# Altium integrated library National Semiconductor Voltage Reference.IntLib: 796 symbols (part 19 of 20)
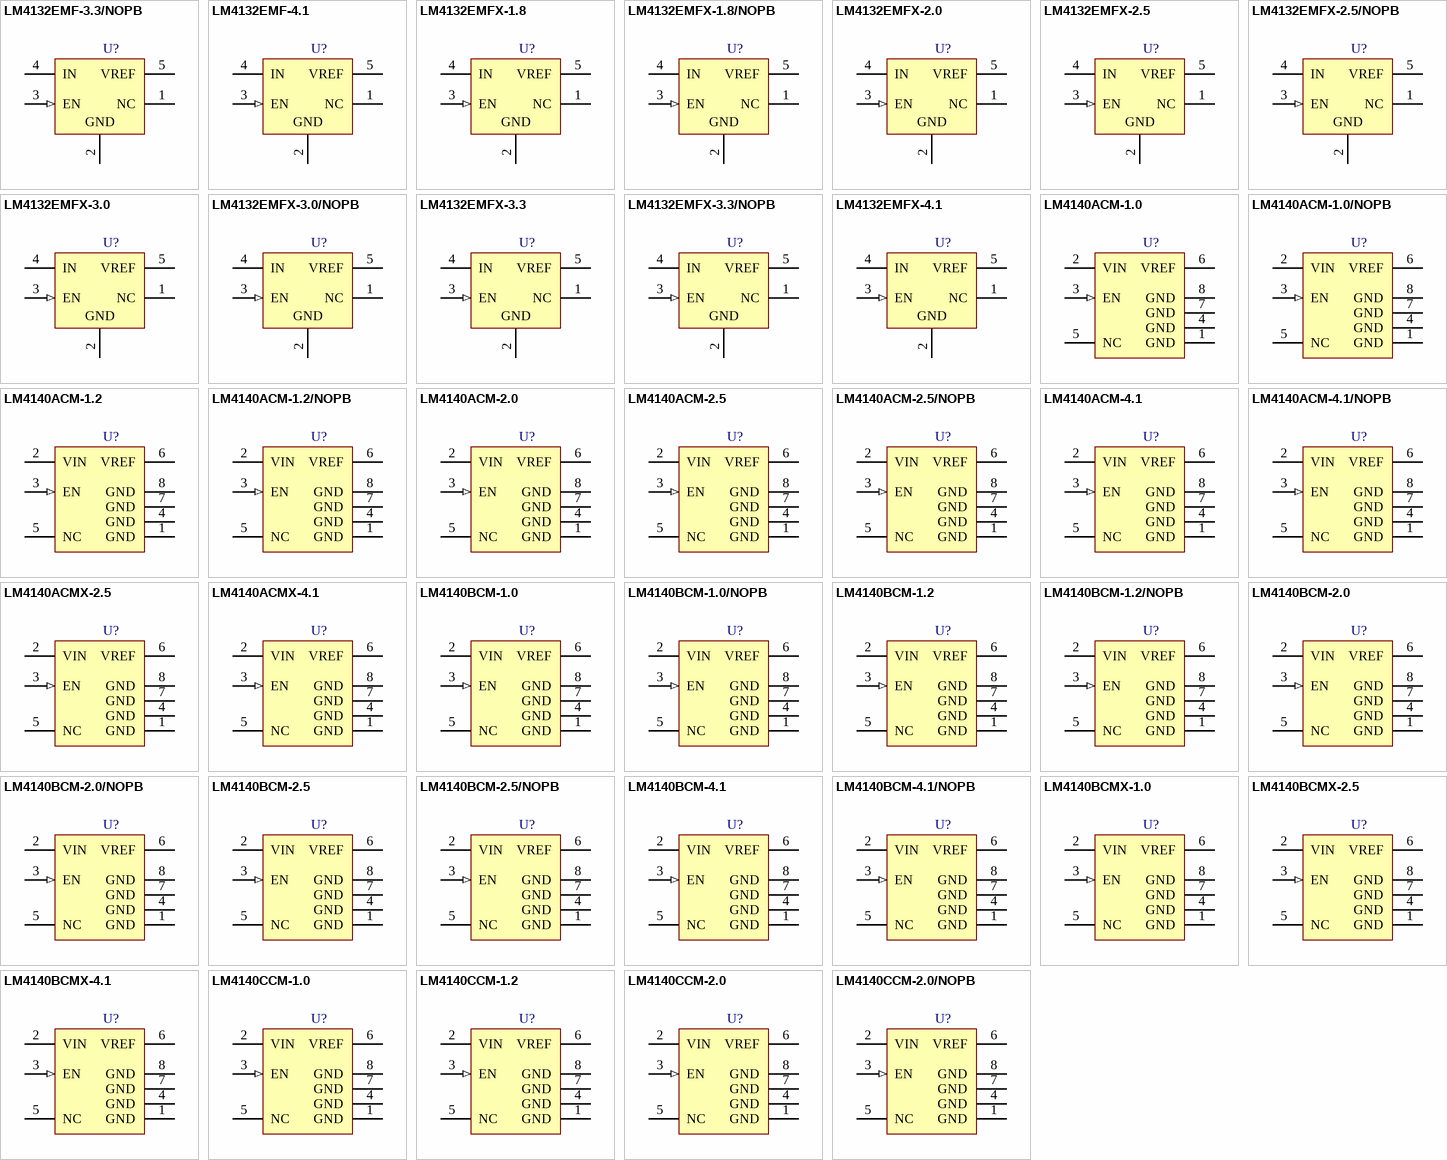
[diagram p38: symbols LM4132EMF-3.3/NOPB to LM4140CCM-2.0/NOPB]

## LM4140ACM-1.2/NOPB
designator U?
Precision Micropower Low Dropout Voltage Reference, 8-pin Narrow SOIC, Pb-Free; PartNumber: LM4140ACM-1.2/NOPB; Manufacturer: National Semiconductor; PackageTopMarking: NSZXTT*4140A*CM1.2; PowerWise: Y; CompType: Voltage Reference IC; DatasheetVersion: Feb-2005; PackageVersion: revM, May-2009; PackageReference: M08A; PackageDescription: SOIC Narrow, 4.9 x 3.9 x 1.45mm, 8 Lead, 1.27mm Pitch; RoHS: Y; PinCount: 8; Code_JEDEC: MS-012-AA; Code_IPC: SOIC127P600-8; ComponentLink1Description: Manufacturer URL; ComponentLink1URL: http://www.national.com/; ComponentLink2Description: LM4140 Datasheet; ComponentLink2URL: http://www.national.com/ds/LM/LM4140.pdf; ComponentLink3Description: LM4140 Web Page; ComponentLink3URL: http://www.national.com/pf/LM/LM4140.html; ComponentLink4Description: M08A Package Page; ComponentLink4URL: http://www.national.com/packaging/folders/m08a.html
footprint M08A_N (SOIC, 8-Leads, Body 4.9x3.9mm, Pitch 1.27mm, IPC Medium Density)
footprint M08A_L (SOIC, 8-Leads, Body 4.9x3.9mm, Pitch 1.27mm, IPC High Density)
footprint M08A_M (SOIC, 8-Leads, Body 4.9x3.9mm, Pitch 1.27mm, IPC Low Density)
pins: 1 GND (power), 2 VIN (power), 3 EN (in), 4 GND (power), 5 NC, 6 VREF (power), 7 GND (power), 8 GND (power)

## LM4140ACM-2.0
designator U?
Precision Micropower Low Dropout Voltage Reference, 8-pin Narrow SOIC; PartNumber: LM4140ACM-2.0; Manufacturer: National Semiconductor; PackageTopMarking: NSZXTT*4140A*CM2.0; PowerWise: Y; CompType: Voltage Reference IC; DatasheetVersion: Feb-2005; PackageVersion: revM, May-2009; PackageReference: M08A; PackageDescription: SOIC Narrow, 4.9 x 3.9 x 1.45mm, 8 Lead, 1.27mm Pitch; RoHS: N; PinCount: 8; Code_JEDEC: MS-012-AA; Code_IPC: SOIC127P600-8; ComponentLink1Description: Manufacturer URL; ComponentLink1URL: http://www.national.com/; ComponentLink2Description: LM4140 Datasheet; ComponentLink2URL: http://www.national.com/ds/LM/LM4140.pdf; ComponentLink3Description: LM4140 Web Page; ComponentLink3URL: http://www.national.com/pf/LM/LM4140.html; ComponentLink4Description: M08A Package Page; ComponentLink4URL: http://www.national.com/packaging/folders/m08a.html
footprint M08A_N (SOIC, 8-Leads, Body 4.9x3.9mm, Pitch 1.27mm, IPC Medium Density)
footprint M08A_L (SOIC, 8-Leads, Body 4.9x3.9mm, Pitch 1.27mm, IPC High Density)
footprint M08A_M (SOIC, 8-Leads, Body 4.9x3.9mm, Pitch 1.27mm, IPC Low Density)
pins: 1 GND (power), 2 VIN (power), 3 EN (in), 4 GND (power), 5 NC, 6 VREF (power), 7 GND (power), 8 GND (power)

## LM4140ACM-2.5
designator U?
Precision Micropower Low Dropout Voltage Reference, 8-pin Narrow SOIC; PartNumber: LM4140ACM-2.5; Manufacturer: National Semiconductor; PackageTopMarking: NSZXTT*4140A*CM2.5; PowerWise: Y; CompType: Voltage Reference IC; DatasheetVersion: Feb-2005; PackageVersion: revM, May-2009; PackageReference: M08A; PackageDescription: SOIC Narrow, 4.9 x 3.9 x 1.45mm, 8 Lead, 1.27mm Pitch; RoHS: N; PinCount: 8; Code_JEDEC: MS-012-AA; Code_IPC: SOIC127P600-8; ComponentLink1Description: Manufacturer URL; ComponentLink1URL: http://www.national.com/; ComponentLink2Description: LM4140 Datasheet; ComponentLink2URL: http://www.national.com/ds/LM/LM4140.pdf; ComponentLink3Description: LM4140 Web Page; ComponentLink3URL: http://www.national.com/pf/LM/LM4140.html; ComponentLink4Description: M08A Package Page; ComponentLink4URL: http://www.national.com/packaging/folders/m08a.html
footprint M08A_N (SOIC, 8-Leads, Body 4.9x3.9mm, Pitch 1.27mm, IPC Medium Density)
footprint M08A_L (SOIC, 8-Leads, Body 4.9x3.9mm, Pitch 1.27mm, IPC High Density)
footprint M08A_M (SOIC, 8-Leads, Body 4.9x3.9mm, Pitch 1.27mm, IPC Low Density)
pins: 1 GND (power), 2 VIN (power), 3 EN (in), 4 GND (power), 5 NC, 6 VREF (power), 7 GND (power), 8 GND (power)

## LM4140ACM-2.5/NOPB
designator U?
Precision Micropower Low Dropout Voltage Reference, 8-pin Narrow SOIC, Pb-Free; PartNumber: LM4140ACM-2.5/NOPB; Manufacturer: National Semiconductor; PackageTopMarking: NSZXTT*4140A*CM2.5; PowerWise: Y; CompType: Voltage Reference IC; DatasheetVersion: Feb-2005; PackageVersion: revM, May-2009; PackageReference: M08A; PackageDescription: SOIC Narrow, 4.9 x 3.9 x 1.45mm, 8 Lead, 1.27mm Pitch; RoHS: Y; PinCount: 8; Code_JEDEC: MS-012-AA; Code_IPC: SOIC127P600-8; ComponentLink1Description: Manufacturer URL; ComponentLink1URL: http://www.national.com/; ComponentLink2Description: LM4140 Datasheet; ComponentLink2URL: http://www.national.com/ds/LM/LM4140.pdf; ComponentLink3Description: LM4140 Web Page; ComponentLink3URL: http://www.national.com/pf/LM/LM4140.html; ComponentLink4Description: M08A Package Page; ComponentLink4URL: http://www.national.com/packaging/folders/m08a.html
footprint M08A_N (SOIC, 8-Leads, Body 4.9x3.9mm, Pitch 1.27mm, IPC Medium Density)
footprint M08A_L (SOIC, 8-Leads, Body 4.9x3.9mm, Pitch 1.27mm, IPC High Density)
footprint M08A_M (SOIC, 8-Leads, Body 4.9x3.9mm, Pitch 1.27mm, IPC Low Density)
pins: 1 GND (power), 2 VIN (power), 3 EN (in), 4 GND (power), 5 NC, 6 VREF (power), 7 GND (power), 8 GND (power)

## LM4140ACM-4.1
designator U?
Precision Micropower Low Dropout Voltage Reference, 8-pin Narrow SOIC; PartNumber: LM4140ACM-4.1; Manufacturer: National Semiconductor; PackageTopMarking: NSZXTT*4140A*CM4.1; PowerWise: Y; CompType: Voltage Reference IC; DatasheetVersion: Feb-2005; PackageVersion: revM, May-2009; PackageReference: M08A; PackageDescription: SOIC Narrow, 4.9 x 3.9 x 1.45mm, 8 Lead, 1.27mm Pitch; RoHS: N; PinCount: 8; Code_JEDEC: MS-012-AA; Code_IPC: SOIC127P600-8; ComponentLink1Description: Manufacturer URL; ComponentLink1URL: http://www.national.com/; ComponentLink2Description: LM4140 Datasheet; ComponentLink2URL: http://www.national.com/ds/LM/LM4140.pdf; ComponentLink3Description: LM4140 Web Page; ComponentLink3URL: http://www.national.com/pf/LM/LM4140.html; ComponentLink4Description: M08A Package Page; ComponentLink4URL: http://www.national.com/packaging/folders/m08a.html
footprint M08A_N (SOIC, 8-Leads, Body 4.9x3.9mm, Pitch 1.27mm, IPC Medium Density)
footprint M08A_L (SOIC, 8-Leads, Body 4.9x3.9mm, Pitch 1.27mm, IPC High Density)
footprint M08A_M (SOIC, 8-Leads, Body 4.9x3.9mm, Pitch 1.27mm, IPC Low Density)
pins: 1 GND (power), 2 VIN (power), 3 EN (in), 4 GND (power), 5 NC, 6 VREF (power), 7 GND (power), 8 GND (power)

## LM4140ACM-4.1/NOPB
designator U?
Precision Micropower Low Dropout Voltage Reference, 8-pin Narrow SOIC, Pb-Free; PartNumber: LM4140ACM-4.1/NOPB; Manufacturer: National Semiconductor; PackageTopMarking: NSZXTT*4140A*CM4.1; PowerWise: Y; CompType: Voltage Reference IC; DatasheetVersion: Feb-2005; PackageVersion: revM, May-2009; PackageReference: M08A; PackageDescription: SOIC Narrow, 4.9 x 3.9 x 1.45mm, 8 Lead, 1.27mm Pitch; RoHS: Y; PinCount: 8; Code_JEDEC: MS-012-AA; Code_IPC: SOIC127P600-8; ComponentLink1Description: Manufacturer URL; ComponentLink1URL: http://www.national.com/; ComponentLink2Description: LM4140 Datasheet; ComponentLink2URL: http://www.national.com/ds/LM/LM4140.pdf; ComponentLink3Description: LM4140 Web Page; ComponentLink3URL: http://www.national.com/pf/LM/LM4140.html; ComponentLink4Description: M08A Package Page; ComponentLink4URL: http://www.national.com/packaging/folders/m08a.html
footprint M08A_N (SOIC, 8-Leads, Body 4.9x3.9mm, Pitch 1.27mm, IPC Medium Density)
footprint M08A_L (SOIC, 8-Leads, Body 4.9x3.9mm, Pitch 1.27mm, IPC High Density)
footprint M08A_M (SOIC, 8-Leads, Body 4.9x3.9mm, Pitch 1.27mm, IPC Low Density)
pins: 1 GND (power), 2 VIN (power), 3 EN (in), 4 GND (power), 5 NC, 6 VREF (power), 7 GND (power), 8 GND (power)

## LM4140ACMX-2.5
designator U?
Precision Micropower Low Dropout Voltage Reference, 8-pin Narrow SOIC; PartNumber: LM4140ACMX-2.5; Manufacturer: National Semiconductor; PackageTopMarking: NSZXTT*4140A*CM2.5; PowerWise: Y; CompType: Voltage Reference IC; DatasheetVersion: Feb-2005; PackageVersion: revM, May-2009; PackageReference: M08A; PackageDescription: SOIC Narrow, 4.9 x 3.9 x 1.45mm, 8 Lead, 1.27mm Pitch; RoHS: N; PinCount: 8; Code_JEDEC: MS-012-AA; Code_IPC: SOIC127P600-8; ComponentLink1Description: Manufacturer URL; ComponentLink1URL: http://www.national.com/; ComponentLink2Description: LM4140 Datasheet; ComponentLink2URL: http://www.national.com/ds/LM/LM4140.pdf; ComponentLink3Description: LM4140 Web Page; ComponentLink3URL: http://www.national.com/pf/LM/LM4140.html; ComponentLink4Description: M08A Package Page; ComponentLink4URL: http://www.national.com/packaging/folders/m08a.html
footprint M08A_N (SOIC, 8-Leads, Body 4.9x3.9mm, Pitch 1.27mm, IPC Medium Density)
footprint M08A_L (SOIC, 8-Leads, Body 4.9x3.9mm, Pitch 1.27mm, IPC High Density)
footprint M08A_M (SOIC, 8-Leads, Body 4.9x3.9mm, Pitch 1.27mm, IPC Low Density)
pins: 1 GND (power), 2 VIN (power), 3 EN (in), 4 GND (power), 5 NC, 6 VREF (power), 7 GND (power), 8 GND (power)

## LM4140ACMX-4.1
designator U?
Precision Micropower Low Dropout Voltage Reference, 8-pin Narrow SOIC; PartNumber: LM4140ACMX-4.1; Manufacturer: National Semiconductor; PackageTopMarking: NSZXTT*4140A*CM4.1; PowerWise: Y; CompType: Voltage Reference IC; DatasheetVersion: Feb-2005; PackageVersion: revM, May-2009; PackageReference: M08A; PackageDescription: SOIC Narrow, 4.9 x 3.9 x 1.45mm, 8 Lead, 1.27mm Pitch; RoHS: N; PinCount: 8; Code_JEDEC: MS-012-AA; Code_IPC: SOIC127P600-8; ComponentLink1Description: Manufacturer URL; ComponentLink1URL: http://www.national.com/; ComponentLink2Description: LM4140 Datasheet; ComponentLink2URL: http://www.national.com/ds/LM/LM4140.pdf; ComponentLink3Description: LM4140 Web Page; ComponentLink3URL: http://www.national.com/pf/LM/LM4140.html; ComponentLink4Description: M08A Package Page; ComponentLink4URL: http://www.national.com/packaging/folders/m08a.html
footprint M08A_N (SOIC, 8-Leads, Body 4.9x3.9mm, Pitch 1.27mm, IPC Medium Density)
footprint M08A_L (SOIC, 8-Leads, Body 4.9x3.9mm, Pitch 1.27mm, IPC High Density)
footprint M08A_M (SOIC, 8-Leads, Body 4.9x3.9mm, Pitch 1.27mm, IPC Low Density)
pins: 1 GND (power), 2 VIN (power), 3 EN (in), 4 GND (power), 5 NC, 6 VREF (power), 7 GND (power), 8 GND (power)

## LM4140BCM-1.0
designator U?
Precision Micropower Low Dropout Voltage Reference, 8-pin Narrow SOIC; PartNumber: LM4140BCM-1.0; Manufacturer: National Semiconductor; PackageTopMarking: NSZXTT*4140B*CM1.0; PowerWise: Y; CompType: Voltage Reference IC; DatasheetVersion: Feb-2005; PackageVersion: revM, May-2009; PackageReference: M08A; PackageDescription: SOIC Narrow, 4.9 x 3.9 x 1.45mm, 8 Lead, 1.27mm Pitch; RoHS: N; PinCount: 8; Code_JEDEC: MS-012-AA; Code_IPC: SOIC127P600-8; ComponentLink1Description: Manufacturer URL; ComponentLink1URL: http://www.national.com/; ComponentLink2Description: LM4140 Datasheet; ComponentLink2URL: http://www.national.com/ds/LM/LM4140.pdf; ComponentLink3Description: LM4140 Web Page; ComponentLink3URL: http://www.national.com/pf/LM/LM4140.html; ComponentLink4Description: M08A Package Page; ComponentLink4URL: http://www.national.com/packaging/folders/m08a.html
footprint M08A_N (SOIC, 8-Leads, Body 4.9x3.9mm, Pitch 1.27mm, IPC Medium Density)
footprint M08A_L (SOIC, 8-Leads, Body 4.9x3.9mm, Pitch 1.27mm, IPC High Density)
footprint M08A_M (SOIC, 8-Leads, Body 4.9x3.9mm, Pitch 1.27mm, IPC Low Density)
pins: 1 GND (power), 2 VIN (power), 3 EN (in), 4 GND (power), 5 NC, 6 VREF (power), 7 GND (power), 8 GND (power)

## LM4140BCM-1.0/NOPB
designator U?
Precision Micropower Low Dropout Voltage Reference, 8-pin Narrow SOIC, Pb-Free; PartNumber: LM4140BCM-1.0/NOPB; Manufacturer: National Semiconductor; PackageTopMarking: NSZXTT*4140B*CM1.0; PowerWise: Y; CompType: Voltage Reference IC; DatasheetVersion: Feb-2005; PackageVersion: revM, May-2009; PackageReference: M08A; PackageDescription: SOIC Narrow, 4.9 x 3.9 x 1.45mm, 8 Lead, 1.27mm Pitch; RoHS: Y; PinCount: 8; Code_JEDEC: MS-012-AA; Code_IPC: SOIC127P600-8; ComponentLink1Description: Manufacturer URL; ComponentLink1URL: http://www.national.com/; ComponentLink2Description: LM4140 Datasheet; ComponentLink2URL: http://www.national.com/ds/LM/LM4140.pdf; ComponentLink3Description: LM4140 Web Page; ComponentLink3URL: http://www.national.com/pf/LM/LM4140.html; ComponentLink4Description: M08A Package Page; ComponentLink4URL: http://www.national.com/packaging/folders/m08a.html
footprint M08A_N (SOIC, 8-Leads, Body 4.9x3.9mm, Pitch 1.27mm, IPC Medium Density)
footprint M08A_L (SOIC, 8-Leads, Body 4.9x3.9mm, Pitch 1.27mm, IPC High Density)
footprint M08A_M (SOIC, 8-Leads, Body 4.9x3.9mm, Pitch 1.27mm, IPC Low Density)
pins: 1 GND (power), 2 VIN (power), 3 EN (in), 4 GND (power), 5 NC, 6 VREF (power), 7 GND (power), 8 GND (power)

## LM4140BCM-1.2
designator U?
Precision Micropower Low Dropout Voltage Reference, 8-pin Narrow SOIC; PartNumber: LM4140BCM-1.2; Manufacturer: National Semiconductor; PackageTopMarking: NSZXTT*4140B*CM1.2; PowerWise: Y; CompType: Voltage Reference IC; DatasheetVersion: Feb-2005; PackageVersion: revM, May-2009; PackageReference: M08A; PackageDescription: SOIC Narrow, 4.9 x 3.9 x 1.45mm, 8 Lead, 1.27mm Pitch; RoHS: N; PinCount: 8; Code_JEDEC: MS-012-AA; Code_IPC: SOIC127P600-8; ComponentLink1Description: Manufacturer URL; ComponentLink1URL: http://www.national.com/; ComponentLink2Description: LM4140 Datasheet; ComponentLink2URL: http://www.national.com/ds/LM/LM4140.pdf; ComponentLink3Description: LM4140 Web Page; ComponentLink3URL: http://www.national.com/pf/LM/LM4140.html; ComponentLink4Description: M08A Package Page; ComponentLink4URL: http://www.national.com/packaging/folders/m08a.html
footprint M08A_N (SOIC, 8-Leads, Body 4.9x3.9mm, Pitch 1.27mm, IPC Medium Density)
footprint M08A_L (SOIC, 8-Leads, Body 4.9x3.9mm, Pitch 1.27mm, IPC High Density)
footprint M08A_M (SOIC, 8-Leads, Body 4.9x3.9mm, Pitch 1.27mm, IPC Low Density)
pins: 1 GND (power), 2 VIN (power), 3 EN (in), 4 GND (power), 5 NC, 6 VREF (power), 7 GND (power), 8 GND (power)

## LM4140BCM-1.2/NOPB
designator U?
Precision Micropower Low Dropout Voltage Reference, 8-pin Narrow SOIC, Pb-Free; PartNumber: LM4140BCM-1.2/NOPB; Manufacturer: National Semiconductor; PackageTopMarking: NSZXTT*4140B*CM1.2; PowerWise: Y; CompType: Voltage Reference IC; DatasheetVersion: Feb-2005; PackageVersion: revM, May-2009; PackageReference: M08A; PackageDescription: SOIC Narrow, 4.9 x 3.9 x 1.45mm, 8 Lead, 1.27mm Pitch; RoHS: Y; PinCount: 8; Code_JEDEC: MS-012-AA; Code_IPC: SOIC127P600-8; ComponentLink1Description: Manufacturer URL; ComponentLink1URL: http://www.national.com/; ComponentLink2Description: LM4140 Datasheet; ComponentLink2URL: http://www.national.com/ds/LM/LM4140.pdf; ComponentLink3Description: LM4140 Web Page; ComponentLink3URL: http://www.national.com/pf/LM/LM4140.html; ComponentLink4Description: M08A Package Page; ComponentLink4URL: http://www.national.com/packaging/folders/m08a.html
footprint M08A_N (SOIC, 8-Leads, Body 4.9x3.9mm, Pitch 1.27mm, IPC Medium Density)
footprint M08A_L (SOIC, 8-Leads, Body 4.9x3.9mm, Pitch 1.27mm, IPC High Density)
footprint M08A_M (SOIC, 8-Leads, Body 4.9x3.9mm, Pitch 1.27mm, IPC Low Density)
pins: 1 GND (power), 2 VIN (power), 3 EN (in), 4 GND (power), 5 NC, 6 VREF (power), 7 GND (power), 8 GND (power)

## LM4140BCM-2.0
designator U?
Precision Micropower Low Dropout Voltage Reference, 8-pin Narrow SOIC; PartNumber: LM4140BCM-2.0; Manufacturer: National Semiconductor; PackageTopMarking: NSZXTT*4140B*CM2.0; PowerWise: Y; CompType: Voltage Reference IC; DatasheetVersion: Feb-2005; PackageVersion: revM, May-2009; PackageReference: M08A; PackageDescription: SOIC Narrow, 4.9 x 3.9 x 1.45mm, 8 Lead, 1.27mm Pitch; RoHS: N; PinCount: 8; Code_JEDEC: MS-012-AA; Code_IPC: SOIC127P600-8; ComponentLink1Description: Manufacturer URL; ComponentLink1URL: http://www.national.com/; ComponentLink2Description: LM4140 Datasheet; ComponentLink2URL: http://www.national.com/ds/LM/LM4140.pdf; ComponentLink3Description: LM4140 Web Page; ComponentLink3URL: http://www.national.com/pf/LM/LM4140.html; ComponentLink4Description: M08A Package Page; ComponentLink4URL: http://www.national.com/packaging/folders/m08a.html
footprint M08A_N (SOIC, 8-Leads, Body 4.9x3.9mm, Pitch 1.27mm, IPC Medium Density)
footprint M08A_L (SOIC, 8-Leads, Body 4.9x3.9mm, Pitch 1.27mm, IPC High Density)
footprint M08A_M (SOIC, 8-Leads, Body 4.9x3.9mm, Pitch 1.27mm, IPC Low Density)
pins: 1 GND (power), 2 VIN (power), 3 EN (in), 4 GND (power), 5 NC, 6 VREF (power), 7 GND (power), 8 GND (power)

## LM4140BCM-2.0/NOPB
designator U?
Precision Micropower Low Dropout Voltage Reference, 8-pin Narrow SOIC, Pb-Free; PartNumber: LM4140BCM-2.0/NOPB; Manufacturer: National Semiconductor; PackageTopMarking: NSZXTT*4140B*CM2.0; PowerWise: Y; CompType: Voltage Reference IC; DatasheetVersion: Feb-2005; PackageVersion: revM, May-2009; PackageReference: M08A; PackageDescription: SOIC Narrow, 4.9 x 3.9 x 1.45mm, 8 Lead, 1.27mm Pitch; RoHS: Y; PinCount: 8; Code_JEDEC: MS-012-AA; Code_IPC: SOIC127P600-8; ComponentLink1Description: Manufacturer URL; ComponentLink1URL: http://www.national.com/; ComponentLink2Description: LM4140 Datasheet; ComponentLink2URL: http://www.national.com/ds/LM/LM4140.pdf; ComponentLink3Description: LM4140 Web Page; ComponentLink3URL: http://www.national.com/pf/LM/LM4140.html; ComponentLink4Description: M08A Package Page; ComponentLink4URL: http://www.national.com/packaging/folders/m08a.html
footprint M08A_N (SOIC, 8-Leads, Body 4.9x3.9mm, Pitch 1.27mm, IPC Medium Density)
footprint M08A_L (SOIC, 8-Leads, Body 4.9x3.9mm, Pitch 1.27mm, IPC High Density)
footprint M08A_M (SOIC, 8-Leads, Body 4.9x3.9mm, Pitch 1.27mm, IPC Low Density)
pins: 1 GND (power), 2 VIN (power), 3 EN (in), 4 GND (power), 5 NC, 6 VREF (power), 7 GND (power), 8 GND (power)

## LM4140BCM-2.5
designator U?
Precision Micropower Low Dropout Voltage Reference, 8-pin Narrow SOIC; PartNumber: LM4140BCM-2.5; Manufacturer: National Semiconductor; PackageTopMarking: NSZXTT*4140B*CM2.5; PowerWise: Y; CompType: Voltage Reference IC; DatasheetVersion: Feb-2005; PackageVersion: revM, May-2009; PackageReference: M08A; PackageDescription: SOIC Narrow, 4.9 x 3.9 x 1.45mm, 8 Lead, 1.27mm Pitch; RoHS: N; PinCount: 8; Code_JEDEC: MS-012-AA; Code_IPC: SOIC127P600-8; ComponentLink1Description: Manufacturer URL; ComponentLink1URL: http://www.national.com/; ComponentLink2Description: LM4140 Datasheet; ComponentLink2URL: http://www.national.com/ds/LM/LM4140.pdf; ComponentLink3Description: LM4140 Web Page; ComponentLink3URL: http://www.national.com/pf/LM/LM4140.html; ComponentLink4Description: M08A Package Page; ComponentLink4URL: http://www.national.com/packaging/folders/m08a.html
footprint M08A_N (SOIC, 8-Leads, Body 4.9x3.9mm, Pitch 1.27mm, IPC Medium Density)
footprint M08A_L (SOIC, 8-Leads, Body 4.9x3.9mm, Pitch 1.27mm, IPC High Density)
footprint M08A_M (SOIC, 8-Leads, Body 4.9x3.9mm, Pitch 1.27mm, IPC Low Density)
pins: 1 GND (power), 2 VIN (power), 3 EN (in), 4 GND (power), 5 NC, 6 VREF (power), 7 GND (power), 8 GND (power)

## LM4140BCM-2.5/NOPB
designator U?
Precision Micropower Low Dropout Voltage Reference, 8-pin Narrow SOIC, Pb-Free; PartNumber: LM4140BCM-2.5/NOPB; Manufacturer: National Semiconductor; PackageTopMarking: NSZXTT*4140B*CM2.5; PowerWise: Y; CompType: Voltage Reference IC; DatasheetVersion: Feb-2005; PackageVersion: revM, May-2009; PackageReference: M08A; PackageDescription: SOIC Narrow, 4.9 x 3.9 x 1.45mm, 8 Lead, 1.27mm Pitch; RoHS: Y; PinCount: 8; Code_JEDEC: MS-012-AA; Code_IPC: SOIC127P600-8; ComponentLink1Description: Manufacturer URL; ComponentLink1URL: http://www.national.com/; ComponentLink2Description: LM4140 Datasheet; ComponentLink2URL: http://www.national.com/ds/LM/LM4140.pdf; ComponentLink3Description: LM4140 Web Page; ComponentLink3URL: http://www.national.com/pf/LM/LM4140.html; ComponentLink4Description: M08A Package Page; ComponentLink4URL: http://www.national.com/packaging/folders/m08a.html
footprint M08A_N (SOIC, 8-Leads, Body 4.9x3.9mm, Pitch 1.27mm, IPC Medium Density)
footprint M08A_L (SOIC, 8-Leads, Body 4.9x3.9mm, Pitch 1.27mm, IPC High Density)
footprint M08A_M (SOIC, 8-Leads, Body 4.9x3.9mm, Pitch 1.27mm, IPC Low Density)
pins: 1 GND (power), 2 VIN (power), 3 EN (in), 4 GND (power), 5 NC, 6 VREF (power), 7 GND (power), 8 GND (power)

## LM4140BCM-4.1
designator U?
Precision Micropower Low Dropout Voltage Reference, 8-pin Narrow SOIC; PartNumber: LM4140BCM-4.1; Manufacturer: National Semiconductor; PackageTopMarking: NSZXTT*4140B*CM4.1; PowerWise: Y; CompType: Voltage Reference IC; DatasheetVersion: Feb-2005; PackageVersion: revM, May-2009; PackageReference: M08A; PackageDescription: SOIC Narrow, 4.9 x 3.9 x 1.45mm, 8 Lead, 1.27mm Pitch; RoHS: N; PinCount: 8; Code_JEDEC: MS-012-AA; Code_IPC: SOIC127P600-8; ComponentLink1Description: Manufacturer URL; ComponentLink1URL: http://www.national.com/; ComponentLink2Description: LM4140 Datasheet; ComponentLink2URL: http://www.national.com/ds/LM/LM4140.pdf; ComponentLink3Description: LM4140 Web Page; ComponentLink3URL: http://www.national.com/pf/LM/LM4140.html; ComponentLink4Description: M08A Package Page; ComponentLink4URL: http://www.national.com/packaging/folders/m08a.html
footprint M08A_N (SOIC, 8-Leads, Body 4.9x3.9mm, Pitch 1.27mm, IPC Medium Density)
footprint M08A_L (SOIC, 8-Leads, Body 4.9x3.9mm, Pitch 1.27mm, IPC High Density)
footprint M08A_M (SOIC, 8-Leads, Body 4.9x3.9mm, Pitch 1.27mm, IPC Low Density)
pins: 1 GND (power), 2 VIN (power), 3 EN (in), 4 GND (power), 5 NC, 6 VREF (power), 7 GND (power), 8 GND (power)

## LM4140BCM-4.1/NOPB
designator U?
Precision Micropower Low Dropout Voltage Reference, 8-pin Narrow SOIC, Pb-Free; PartNumber: LM4140BCM-4.1/NOPB; Manufacturer: National Semiconductor; PackageTopMarking: NSZXTT*4140B*CM4.1; PowerWise: Y; CompType: Voltage Reference IC; DatasheetVersion: Feb-2005; PackageVersion: revM, May-2009; PackageReference: M08A; PackageDescription: SOIC Narrow, 4.9 x 3.9 x 1.45mm, 8 Lead, 1.27mm Pitch; RoHS: Y; PinCount: 8; Code_JEDEC: MS-012-AA; Code_IPC: SOIC127P600-8; ComponentLink1Description: Manufacturer URL; ComponentLink1URL: http://www.national.com/; ComponentLink2Description: LM4140 Datasheet; ComponentLink2URL: http://www.national.com/ds/LM/LM4140.pdf; ComponentLink3Description: LM4140 Web Page; ComponentLink3URL: http://www.national.com/pf/LM/LM4140.html; ComponentLink4Description: M08A Package Page; ComponentLink4URL: http://www.national.com/packaging/folders/m08a.html
footprint M08A_N (SOIC, 8-Leads, Body 4.9x3.9mm, Pitch 1.27mm, IPC Medium Density)
footprint M08A_L (SOIC, 8-Leads, Body 4.9x3.9mm, Pitch 1.27mm, IPC High Density)
footprint M08A_M (SOIC, 8-Leads, Body 4.9x3.9mm, Pitch 1.27mm, IPC Low Density)
pins: 1 GND (power), 2 VIN (power), 3 EN (in), 4 GND (power), 5 NC, 6 VREF (power), 7 GND (power), 8 GND (power)

## LM4140BCMX-1.0
designator U?
Precision Micropower Low Dropout Voltage Reference, 8-pin Narrow SOIC; PartNumber: LM4140BCMX-1.0; Manufacturer: National Semiconductor; PackageTopMarking: NSZXTT*4140B*CM1.0; PowerWise: Y; CompType: Voltage Reference IC; DatasheetVersion: Feb-2005; PackageVersion: revM, May-2009; PackageReference: M08A; PackageDescription: SOIC Narrow, 4.9 x 3.9 x 1.45mm, 8 Lead, 1.27mm Pitch; RoHS: N; PinCount: 8; Code_JEDEC: MS-012-AA; Code_IPC: SOIC127P600-8; ComponentLink1Description: Manufacturer URL; ComponentLink1URL: http://www.national.com/; ComponentLink2Description: LM4140 Datasheet; ComponentLink2URL: http://www.national.com/ds/LM/LM4140.pdf; ComponentLink3Description: LM4140 Web Page; ComponentLink3URL: http://www.national.com/pf/LM/LM4140.html; ComponentLink4Description: M08A Package Page; ComponentLink4URL: http://www.national.com/packaging/folders/m08a.html
footprint M08A_N (SOIC, 8-Leads, Body 4.9x3.9mm, Pitch 1.27mm, IPC Medium Density)
footprint M08A_L (SOIC, 8-Leads, Body 4.9x3.9mm, Pitch 1.27mm, IPC High Density)
footprint M08A_M (SOIC, 8-Leads, Body 4.9x3.9mm, Pitch 1.27mm, IPC Low Density)
pins: 1 GND (power), 2 VIN (power), 3 EN (in), 4 GND (power), 5 NC, 6 VREF (power), 7 GND (power), 8 GND (power)

## LM4140BCMX-2.5
designator U?
Precision Micropower Low Dropout Voltage Reference, 8-pin Narrow SOIC; PartNumber: LM4140BCMX-2.5; Manufacturer: National Semiconductor; PackageTopMarking: NSZXTT*4140B*CM2.5; PowerWise: Y; CompType: Voltage Reference IC; DatasheetVersion: Feb-2005; PackageVersion: revM, May-2009; PackageReference: M08A; PackageDescription: SOIC Narrow, 4.9 x 3.9 x 1.45mm, 8 Lead, 1.27mm Pitch; RoHS: N; PinCount: 8; Code_JEDEC: MS-012-AA; Code_IPC: SOIC127P600-8; ComponentLink1Description: Manufacturer URL; ComponentLink1URL: http://www.national.com/; ComponentLink2Description: LM4140 Datasheet; ComponentLink2URL: http://www.national.com/ds/LM/LM4140.pdf; ComponentLink3Description: LM4140 Web Page; ComponentLink3URL: http://www.national.com/pf/LM/LM4140.html; ComponentLink4Description: M08A Package Page; ComponentLink4URL: http://www.national.com/packaging/folders/m08a.html
footprint M08A_N (SOIC, 8-Leads, Body 4.9x3.9mm, Pitch 1.27mm, IPC Medium Density)
footprint M08A_L (SOIC, 8-Leads, Body 4.9x3.9mm, Pitch 1.27mm, IPC High Density)
footprint M08A_M (SOIC, 8-Leads, Body 4.9x3.9mm, Pitch 1.27mm, IPC Low Density)
pins: 1 GND (power), 2 VIN (power), 3 EN (in), 4 GND (power), 5 NC, 6 VREF (power), 7 GND (power), 8 GND (power)

## LM4140BCMX-4.1
designator U?
Precision Micropower Low Dropout Voltage Reference, 8-pin Narrow SOIC; PartNumber: LM4140BCMX-4.1; Manufacturer: National Semiconductor; PackageTopMarking: NSZXTT*4140B*CM4.1; PowerWise: Y; CompType: Voltage Reference IC; DatasheetVersion: Feb-2005; PackageVersion: revM, May-2009; PackageReference: M08A; PackageDescription: SOIC Narrow, 4.9 x 3.9 x 1.45mm, 8 Lead, 1.27mm Pitch; RoHS: N; PinCount: 8; Code_JEDEC: MS-012-AA; Code_IPC: SOIC127P600-8; ComponentLink1Description: Manufacturer URL; ComponentLink1URL: http://www.national.com/; ComponentLink2Description: LM4140 Datasheet; ComponentLink2URL: http://www.national.com/ds/LM/LM4140.pdf; ComponentLink3Description: LM4140 Web Page; ComponentLink3URL: http://www.national.com/pf/LM/LM4140.html; ComponentLink4Description: M08A Package Page; ComponentLink4URL: http://www.national.com/packaging/folders/m08a.html
footprint M08A_N (SOIC, 8-Leads, Body 4.9x3.9mm, Pitch 1.27mm, IPC Medium Density)
footprint M08A_L (SOIC, 8-Leads, Body 4.9x3.9mm, Pitch 1.27mm, IPC High Density)
footprint M08A_M (SOIC, 8-Leads, Body 4.9x3.9mm, Pitch 1.27mm, IPC Low Density)
pins: 1 GND (power), 2 VIN (power), 3 EN (in), 4 GND (power), 5 NC, 6 VREF (power), 7 GND (power), 8 GND (power)

## LM4140CCM-1.0
designator U?
Precision Micropower Low Dropout Voltage Reference, 8-pin Narrow SOIC; PartNumber: LM4140CCM-1.0; Manufacturer: National Semiconductor; PackageTopMarking: NSZXTT*4140C*CM1.0; PowerWise: Y; CompType: Voltage Reference IC; DatasheetVersion: Feb-2005; PackageVersion: revM, May-2009; PackageReference: M08A; PackageDescription: SOIC Narrow, 4.9 x 3.9 x 1.45mm, 8 Lead, 1.27mm Pitch; RoHS: N; PinCount: 8; Code_JEDEC: MS-012-AA; Code_IPC: SOIC127P600-8; ComponentLink1Description: Manufacturer URL; ComponentLink1URL: http://www.national.com/; ComponentLink2Description: LM4140 Datasheet; ComponentLink2URL: http://www.national.com/ds/LM/LM4140.pdf; ComponentLink3Description: LM4140 Web Page; ComponentLink3URL: http://www.national.com/pf/LM/LM4140.html; ComponentLink4Description: M08A Package Page; ComponentLink4URL: http://www.national.com/packaging/folders/m08a.html
footprint M08A_N (SOIC, 8-Leads, Body 4.9x3.9mm, Pitch 1.27mm, IPC Medium Density)
footprint M08A_L (SOIC, 8-Leads, Body 4.9x3.9mm, Pitch 1.27mm, IPC High Density)
footprint M08A_M (SOIC, 8-Leads, Body 4.9x3.9mm, Pitch 1.27mm, IPC Low Density)
pins: 1 GND (power), 2 VIN (power), 3 EN (in), 4 GND (power), 5 NC, 6 VREF (power), 7 GND (power), 8 GND (power)

## LM4140CCM-1.2
designator U?
Precision Micropower Low Dropout Voltage Reference, 8-pin Narrow SOIC; PartNumber: LM4140CCM-1.2; Manufacturer: National Semiconductor; PackageTopMarking: NSZXTT*4140C*CM1.2; PowerWise: Y; CompType: Voltage Reference IC; DatasheetVersion: Feb-2005; PackageVersion: revM, May-2009; PackageReference: M08A; PackageDescription: SOIC Narrow, 4.9 x 3.9 x 1.45mm, 8 Lead, 1.27mm Pitch; RoHS: N; PinCount: 8; Code_JEDEC: MS-012-AA; Code_IPC: SOIC127P600-8; ComponentLink1Description: Manufacturer URL; ComponentLink1URL: http://www.national.com/; ComponentLink2Description: LM4140 Datasheet; ComponentLink2URL: http://www.national.com/ds/LM/LM4140.pdf; ComponentLink3Description: LM4140 Web Page; ComponentLink3URL: http://www.national.com/pf/LM/LM4140.html; ComponentLink4Description: M08A Package Page; ComponentLink4URL: http://www.national.com/packaging/folders/m08a.html
footprint M08A_N (SOIC, 8-Leads, Body 4.9x3.9mm, Pitch 1.27mm, IPC Medium Density)
footprint M08A_L (SOIC, 8-Leads, Body 4.9x3.9mm, Pitch 1.27mm, IPC High Density)
footprint M08A_M (SOIC, 8-Leads, Body 4.9x3.9mm, Pitch 1.27mm, IPC Low Density)
pins: 1 GND (power), 2 VIN (power), 3 EN (in), 4 GND (power), 5 NC, 6 VREF (power), 7 GND (power), 8 GND (power)

## LM4140CCM-2.0
designator U?
Precision Micropower Low Dropout Voltage Reference, 8-pin Narrow SOIC; PartNumber: LM4140CCM-2.0; Manufacturer: National Semiconductor; PackageTopMarking: NSZXTT*4140C*CM2.0; PowerWise: Y; CompType: Voltage Reference IC; DatasheetVersion: Feb-2005; PackageVersion: revM, May-2009; PackageReference: M08A; PackageDescription: SOIC Narrow, 4.9 x 3.9 x 1.45mm, 8 Lead, 1.27mm Pitch; RoHS: N; PinCount: 8; Code_JEDEC: MS-012-AA; Code_IPC: SOIC127P600-8; ComponentLink1Description: Manufacturer URL; ComponentLink1URL: http://www.national.com/; ComponentLink2Description: LM4140 Datasheet; ComponentLink2URL: http://www.national.com/ds/LM/LM4140.pdf; ComponentLink3Description: LM4140 Web Page; ComponentLink3URL: http://www.national.com/pf/LM/LM4140.html; ComponentLink4Description: M08A Package Page; ComponentLink4URL: http://www.national.com/packaging/folders/m08a.html
footprint M08A_N (SOIC, 8-Leads, Body 4.9x3.9mm, Pitch 1.27mm, IPC Medium Density)
footprint M08A_L (SOIC, 8-Leads, Body 4.9x3.9mm, Pitch 1.27mm, IPC High Density)
footprint M08A_M (SOIC, 8-Leads, Body 4.9x3.9mm, Pitch 1.27mm, IPC Low Density)
pins: 1 GND (power), 2 VIN (power), 3 EN (in), 4 GND (power), 5 NC, 6 VREF (power), 7 GND (power), 8 GND (power)

## LM4140CCM-2.0/NOPB
designator U?
Precision Micropower Low Dropout Voltage Reference, 8-pin Narrow SOIC, Pb-Free; PartNumber: LM4140CCM-2.0/NOPB; Manufacturer: National Semiconductor; PackageTopMarking: NSZXTT*4140C*CM2.0; PowerWise: Y; CompType: Voltage Reference IC; DatasheetVersion: Feb-2005; PackageVersion: revM, May-2009; PackageReference: M08A; PackageDescription: SOIC Narrow, 4.9 x 3.9 x 1.45mm, 8 Lead, 1.27mm Pitch; RoHS: Y; PinCount: 8; Code_JEDEC: MS-012-AA; Code_IPC: SOIC127P600-8; ComponentLink1Description: Manufacturer URL; ComponentLink1URL: http://www.national.com/; ComponentLink2Description: LM4140 Datasheet; ComponentLink2URL: http://www.national.com/ds/LM/LM4140.pdf; ComponentLink3Description: LM4140 Web Page; ComponentLink3URL: http://www.national.com/pf/LM/LM4140.html; ComponentLink4Description: M08A Package Page; ComponentLink4URL: http://www.national.com/packaging/folders/m08a.html
footprint M08A_N (SOIC, 8-Leads, Body 4.9x3.9mm, Pitch 1.27mm, IPC Medium Density)
footprint M08A_L (SOIC, 8-Leads, Body 4.9x3.9mm, Pitch 1.27mm, IPC High Density)
footprint M08A_M (SOIC, 8-Leads, Body 4.9x3.9mm, Pitch 1.27mm, IPC Low Density)
pins: 1 GND (power), 2 VIN (power), 3 EN (in), 4 GND (power), 5 NC, 6 VREF (power), 7 GND (power), 8 GND (power)

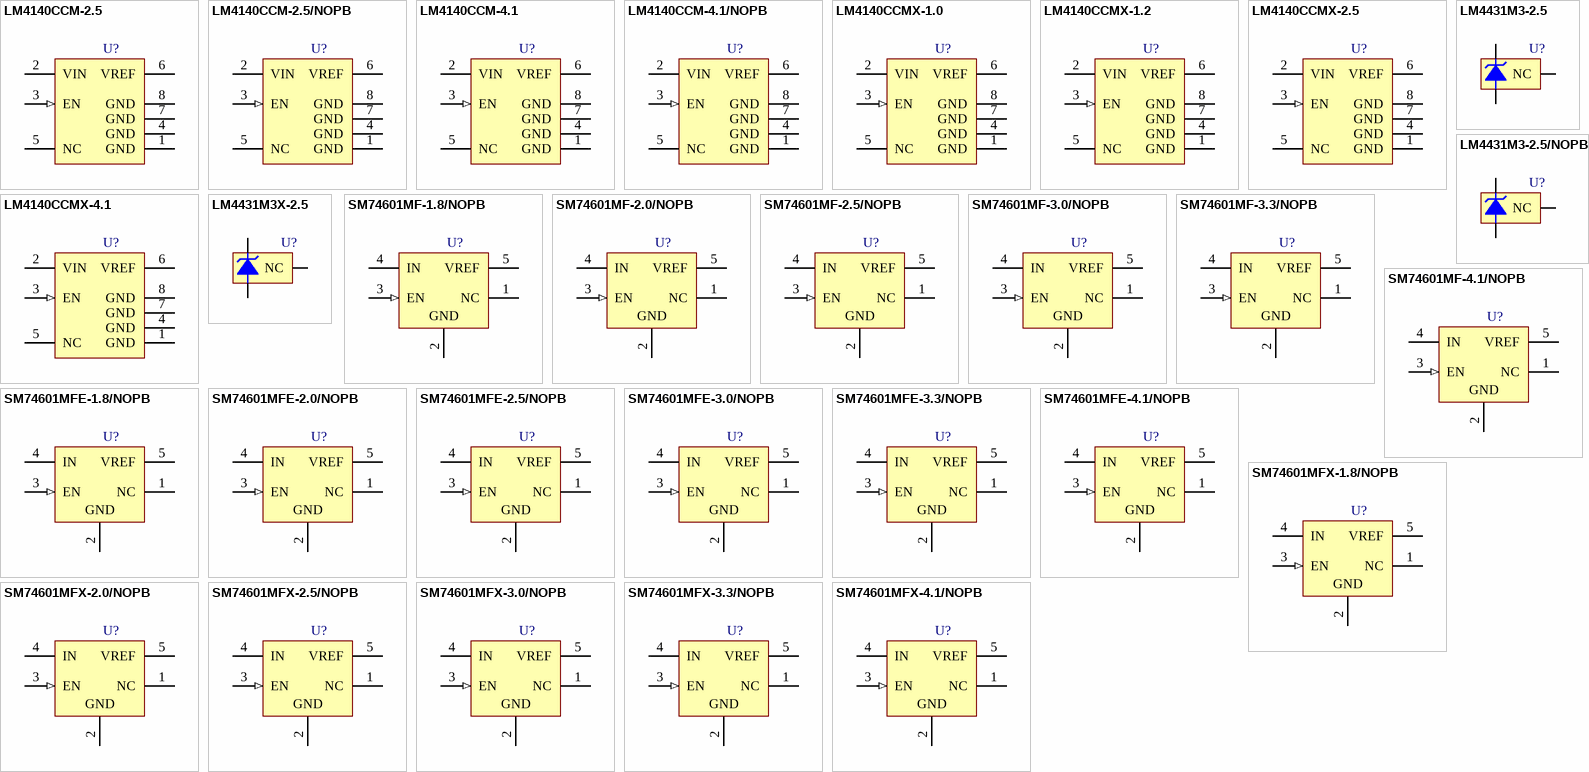
[diagram p20: symbols LM4140CCM-2.5 to SM74601MFX-4.1/NOPB]

## LM4140CCM-2.5
designator U?
Precision Micropower Low Dropout Voltage Reference, 8-pin Narrow SOIC; PartNumber: LM4140CCM-2.5; Manufacturer: National Semiconductor; PackageTopMarking: NSZXTT*4140C*CM2.5; PowerWise: Y; CompType: Voltage Reference IC; DatasheetVersion: Feb-2005; PackageVersion: revM, May-2009; PackageReference: M08A; PackageDescription: SOIC Narrow, 4.9 x 3.9 x 1.45mm, 8 Lead, 1.27mm Pitch; RoHS: N; PinCount: 8; Code_JEDEC: MS-012-AA; Code_IPC: SOIC127P600-8; ComponentLink1Description: Manufacturer URL; ComponentLink1URL: http://www.national.com/; ComponentLink2Description: LM4140 Datasheet; ComponentLink2URL: http://www.national.com/ds/LM/LM4140.pdf; ComponentLink3Description: LM4140 Web Page; ComponentLink3URL: http://www.national.com/pf/LM/LM4140.html; ComponentLink4Description: M08A Package Page; ComponentLink4URL: http://www.national.com/packaging/folders/m08a.html
footprint M08A_N (SOIC, 8-Leads, Body 4.9x3.9mm, Pitch 1.27mm, IPC Medium Density)
footprint M08A_L (SOIC, 8-Leads, Body 4.9x3.9mm, Pitch 1.27mm, IPC High Density)
footprint M08A_M (SOIC, 8-Leads, Body 4.9x3.9mm, Pitch 1.27mm, IPC Low Density)
pins: 1 GND (power), 2 VIN (power), 3 EN (in), 4 GND (power), 5 NC, 6 VREF (power), 7 GND (power), 8 GND (power)

## LM4140CCM-2.5/NOPB
designator U?
Precision Micropower Low Dropout Voltage Reference, 8-pin Narrow SOIC, Pb-Free; PartNumber: LM4140CCM-2.5/NOPB; Manufacturer: National Semiconductor; PackageTopMarking: NSZXTT*4140C*CM2.5; PowerWise: Y; CompType: Voltage Reference IC; DatasheetVersion: Feb-2005; PackageVersion: revM, May-2009; PackageReference: M08A; PackageDescription: SOIC Narrow, 4.9 x 3.9 x 1.45mm, 8 Lead, 1.27mm Pitch; RoHS: Y; PinCount: 8; Code_JEDEC: MS-012-AA; Code_IPC: SOIC127P600-8; ComponentLink1Description: Manufacturer URL; ComponentLink1URL: http://www.national.com/; ComponentLink2Description: LM4140 Datasheet; ComponentLink2URL: http://www.national.com/ds/LM/LM4140.pdf; ComponentLink3Description: LM4140 Web Page; ComponentLink3URL: http://www.national.com/pf/LM/LM4140.html; ComponentLink4Description: M08A Package Page; ComponentLink4URL: http://www.national.com/packaging/folders/m08a.html
footprint M08A_N (SOIC, 8-Leads, Body 4.9x3.9mm, Pitch 1.27mm, IPC Medium Density)
footprint M08A_L (SOIC, 8-Leads, Body 4.9x3.9mm, Pitch 1.27mm, IPC High Density)
footprint M08A_M (SOIC, 8-Leads, Body 4.9x3.9mm, Pitch 1.27mm, IPC Low Density)
pins: 1 GND (power), 2 VIN (power), 3 EN (in), 4 GND (power), 5 NC, 6 VREF (power), 7 GND (power), 8 GND (power)

## LM4140CCM-4.1
designator U?
Precision Micropower Low Dropout Voltage Reference, 8-pin Narrow SOIC; PartNumber: LM4140CCM-4.1; Manufacturer: National Semiconductor; PackageTopMarking: NSZXTT*4140C*CM4.1; PowerWise: Y; CompType: Voltage Reference IC; DatasheetVersion: Feb-2005; PackageVersion: revM, May-2009; PackageReference: M08A; PackageDescription: SOIC Narrow, 4.9 x 3.9 x 1.45mm, 8 Lead, 1.27mm Pitch; RoHS: N; PinCount: 8; Code_JEDEC: MS-012-AA; Code_IPC: SOIC127P600-8; ComponentLink1Description: Manufacturer URL; ComponentLink1URL: http://www.national.com/; ComponentLink2Description: LM4140 Datasheet; ComponentLink2URL: http://www.national.com/ds/LM/LM4140.pdf; ComponentLink3Description: LM4140 Web Page; ComponentLink3URL: http://www.national.com/pf/LM/LM4140.html; ComponentLink4Description: M08A Package Page; ComponentLink4URL: http://www.national.com/packaging/folders/m08a.html
footprint M08A_N (SOIC, 8-Leads, Body 4.9x3.9mm, Pitch 1.27mm, IPC Medium Density)
footprint M08A_L (SOIC, 8-Leads, Body 4.9x3.9mm, Pitch 1.27mm, IPC High Density)
footprint M08A_M (SOIC, 8-Leads, Body 4.9x3.9mm, Pitch 1.27mm, IPC Low Density)
pins: 1 GND (power), 2 VIN (power), 3 EN (in), 4 GND (power), 5 NC, 6 VREF (power), 7 GND (power), 8 GND (power)

## LM4140CCM-4.1/NOPB
designator U?
Precision Micropower Low Dropout Voltage Reference, 8-pin Narrow SOIC, Pb-Free; PartNumber: LM4140CCM-4.1/NOPB; Manufacturer: National Semiconductor; PackageTopMarking: NSZXTT*4140C*CM4.1; PowerWise: Y; CompType: Voltage Reference IC; DatasheetVersion: Feb-2005; PackageVersion: revM, May-2009; PackageReference: M08A; PackageDescription: SOIC Narrow, 4.9 x 3.9 x 1.45mm, 8 Lead, 1.27mm Pitch; RoHS: Y; PinCount: 8; Code_JEDEC: MS-012-AA; Code_IPC: SOIC127P600-8; ComponentLink1Description: Manufacturer URL; ComponentLink1URL: http://www.national.com/; ComponentLink2Description: LM4140 Datasheet; ComponentLink2URL: http://www.national.com/ds/LM/LM4140.pdf; ComponentLink3Description: LM4140 Web Page; ComponentLink3URL: http://www.national.com/pf/LM/LM4140.html; ComponentLink4Description: M08A Package Page; ComponentLink4URL: http://www.national.com/packaging/folders/m08a.html
footprint M08A_N (SOIC, 8-Leads, Body 4.9x3.9mm, Pitch 1.27mm, IPC Medium Density)
footprint M08A_L (SOIC, 8-Leads, Body 4.9x3.9mm, Pitch 1.27mm, IPC High Density)
footprint M08A_M (SOIC, 8-Leads, Body 4.9x3.9mm, Pitch 1.27mm, IPC Low Density)
pins: 1 GND (power), 2 VIN (power), 3 EN (in), 4 GND (power), 5 NC, 6 VREF (power), 7 GND (power), 8 GND (power)

## LM4140CCMX-1.0
designator U?
Precision Micropower Low Dropout Voltage Reference, 8-pin Narrow SOIC; PartNumber: LM4140CCMX-1.0; Manufacturer: National Semiconductor; PackageTopMarking: NSZXTT*4140C*CM1.0; PowerWise: Y; CompType: Voltage Reference IC; DatasheetVersion: Feb-2005; PackageVersion: revM, May-2009; PackageReference: M08A; PackageDescription: SOIC Narrow, 4.9 x 3.9 x 1.45mm, 8 Lead, 1.27mm Pitch; RoHS: N; PinCount: 8; Code_JEDEC: MS-012-AA; Code_IPC: SOIC127P600-8; ComponentLink1Description: Manufacturer URL; ComponentLink1URL: http://www.national.com/; ComponentLink2Description: LM4140 Datasheet; ComponentLink2URL: http://www.national.com/ds/LM/LM4140.pdf; ComponentLink3Description: LM4140 Web Page; ComponentLink3URL: http://www.national.com/pf/LM/LM4140.html; ComponentLink4Description: M08A Package Page; ComponentLink4URL: http://www.national.com/packaging/folders/m08a.html
footprint M08A_N (SOIC, 8-Leads, Body 4.9x3.9mm, Pitch 1.27mm, IPC Medium Density)
footprint M08A_L (SOIC, 8-Leads, Body 4.9x3.9mm, Pitch 1.27mm, IPC High Density)
footprint M08A_M (SOIC, 8-Leads, Body 4.9x3.9mm, Pitch 1.27mm, IPC Low Density)
pins: 1 GND (power), 2 VIN (power), 3 EN (in), 4 GND (power), 5 NC, 6 VREF (power), 7 GND (power), 8 GND (power)

## LM4140CCMX-1.2
designator U?
Precision Micropower Low Dropout Voltage Reference, 8-pin Narrow SOIC; PartNumber: LM4140CCMX-1.2; Manufacturer: National Semiconductor; PackageTopMarking: NSZXTT*4140C*CM1.2; PowerWise: Y; CompType: Voltage Reference IC; DatasheetVersion: Feb-2005; PackageVersion: revM, May-2009; PackageReference: M08A; PackageDescription: SOIC Narrow, 4.9 x 3.9 x 1.45mm, 8 Lead, 1.27mm Pitch; RoHS: N; PinCount: 8; Code_JEDEC: MS-012-AA; Code_IPC: SOIC127P600-8; ComponentLink1Description: Manufacturer URL; ComponentLink1URL: http://www.national.com/; ComponentLink2Description: LM4140 Datasheet; ComponentLink2URL: http://www.national.com/ds/LM/LM4140.pdf; ComponentLink3Description: LM4140 Web Page; ComponentLink3URL: http://www.national.com/pf/LM/LM4140.html; ComponentLink4Description: M08A Package Page; ComponentLink4URL: http://www.national.com/packaging/folders/m08a.html
footprint M08A_N (SOIC, 8-Leads, Body 4.9x3.9mm, Pitch 1.27mm, IPC Medium Density)
footprint M08A_L (SOIC, 8-Leads, Body 4.9x3.9mm, Pitch 1.27mm, IPC High Density)
footprint M08A_M (SOIC, 8-Leads, Body 4.9x3.9mm, Pitch 1.27mm, IPC Low Density)
pins: 1 GND (power), 2 VIN (power), 3 EN (in), 4 GND (power), 5 NC, 6 VREF (power), 7 GND (power), 8 GND (power)

## LM4140CCMX-2.5
designator U?
Precision Micropower Low Dropout Voltage Reference, 8-pin Narrow SOIC; PartNumber: LM4140CCMX-2.5; Manufacturer: National Semiconductor; PackageTopMarking: NSZXTT*4140C*CM2.5; PowerWise: Y; CompType: Voltage Reference IC; DatasheetVersion: Feb-2005; PackageVersion: revM, May-2009; PackageReference: M08A; PackageDescription: SOIC Narrow, 4.9 x 3.9 x 1.45mm, 8 Lead, 1.27mm Pitch; RoHS: N; PinCount: 8; Code_JEDEC: MS-012-AA; Code_IPC: SOIC127P600-8; ComponentLink1Description: Manufacturer URL; ComponentLink1URL: http://www.national.com/; ComponentLink2Description: LM4140 Datasheet; ComponentLink2URL: http://www.national.com/ds/LM/LM4140.pdf; ComponentLink3Description: LM4140 Web Page; ComponentLink3URL: http://www.national.com/pf/LM/LM4140.html; ComponentLink4Description: M08A Package Page; ComponentLink4URL: http://www.national.com/packaging/folders/m08a.html
footprint M08A_N (SOIC, 8-Leads, Body 4.9x3.9mm, Pitch 1.27mm, IPC Medium Density)
footprint M08A_L (SOIC, 8-Leads, Body 4.9x3.9mm, Pitch 1.27mm, IPC High Density)
footprint M08A_M (SOIC, 8-Leads, Body 4.9x3.9mm, Pitch 1.27mm, IPC Low Density)
pins: 1 GND (power), 2 VIN (power), 3 EN (in), 4 GND (power), 5 NC, 6 VREF (power), 7 GND (power), 8 GND (power)

## LM4140CCMX-4.1
designator U?
Precision Micropower Low Dropout Voltage Reference, 8-pin Narrow SOIC; PartNumber: LM4140CCMX-4.1; Manufacturer: National Semiconductor; PackageTopMarking: NSZXTT*4140C*CM4.1; PowerWise: Y; CompType: Voltage Reference IC; DatasheetVersion: Feb-2005; PackageVersion: revM, May-2009; PackageReference: M08A; PackageDescription: SOIC Narrow, 4.9 x 3.9 x 1.45mm, 8 Lead, 1.27mm Pitch; RoHS: N; PinCount: 8; Code_JEDEC: MS-012-AA; Code_IPC: SOIC127P600-8; ComponentLink1Description: Manufacturer URL; ComponentLink1URL: http://www.national.com/; ComponentLink2Description: LM4140 Datasheet; ComponentLink2URL: http://www.national.com/ds/LM/LM4140.pdf; ComponentLink3Description: LM4140 Web Page; ComponentLink3URL: http://www.national.com/pf/LM/LM4140.html; ComponentLink4Description: M08A Package Page; ComponentLink4URL: http://www.national.com/packaging/folders/m08a.html
footprint M08A_N (SOIC, 8-Leads, Body 4.9x3.9mm, Pitch 1.27mm, IPC Medium Density)
footprint M08A_L (SOIC, 8-Leads, Body 4.9x3.9mm, Pitch 1.27mm, IPC High Density)
footprint M08A_M (SOIC, 8-Leads, Body 4.9x3.9mm, Pitch 1.27mm, IPC Low Density)
pins: 1 GND (power), 2 VIN (power), 3 EN (in), 4 GND (power), 5 NC, 6 VREF (power), 7 GND (power), 8 GND (power)

## LM4431M3-2.5
designator U?
Micropower Shunt Voltage Reference, 3-pin SOT-23; PartNumber: LM4431M3-2.5; Manufacturer: National Semiconductor; PackageTopMarking: S2E*XTT; PowerWise: N; CompType: Voltage Reference IC; DatasheetVersion: Jul-1998; PackageVersion: revB, Mar-2003; PackageReference: MF03A; PackageDescription: Molded SOT-23, .115 x .051 x .037in Body, 3 Lead, .075 in Pitch; RoHS: N; PinCount: 3; ComponentLink1Description: Manufacturer URL; ComponentLink1URL: http://www.national.com/; ComponentLink2Description: LM4431 Datasheet; ComponentLink2URL: http://www.national.com/ds/LM/LM4431.pdf; ComponentLink3Description: LM4431 Web Page; ComponentLink3URL: http://www.national.com/pf/LM/LM4431.html; ComponentLink4Description: MF03A Package Page; ComponentLink4URL: http://www.national.com/packaging/folders/mf03a.html
footprint MF03A_N (SOT23, 3-Leads, Body 2.9x1.3mm, Pitch 0.95mm, Lead Span 2.4mm, IPC Medium Density)
footprint MF03A_L (SOT23, 3-Leads, Body 2.9x1.3mm, Pitch 0.95mm, Lead Span 2.4mm, IPC High Density)
footprint MF03A_M (SOT23, 3-Leads, Body 2.9x1.3mm, Pitch 0.95mm, Lead Span 2.4mm, IPC Low Density)
pins: 1 +V, 2 -V, 3 NC

## LM4431M3-2.5/NOPB
designator U?
Micropower Shunt Voltage Reference, 3-pin SOT-23, Pb-Free; PartNumber: LM4431M3-2.5/NOPB; Manufacturer: National Semiconductor; PackageTopMarking: S2E*XTT; PowerWise: N; CompType: Voltage Reference IC; DatasheetVersion: Jul-1998; PackageVersion: revB, Mar-2003; PackageReference: MF03A; PackageDescription: Molded SOT-23, .115 x .051 x .037in Body, 3 Lead, .075 in Pitch; RoHS: Y; PinCount: 3; ComponentLink1Description: Manufacturer URL; ComponentLink1URL: http://www.national.com/; ComponentLink2Description: LM4431 Datasheet; ComponentLink2URL: http://www.national.com/ds/LM/LM4431.pdf; ComponentLink3Description: LM4431 Web Page; ComponentLink3URL: http://www.national.com/pf/LM/LM4431.html; ComponentLink4Description: MF03A Package Page; ComponentLink4URL: http://www.national.com/packaging/folders/mf03a.html
footprint MF03A_N (SOT23, 3-Leads, Body 2.9x1.3mm, Pitch 0.95mm, Lead Span 2.4mm, IPC Medium Density)
footprint MF03A_L (SOT23, 3-Leads, Body 2.9x1.3mm, Pitch 0.95mm, Lead Span 2.4mm, IPC High Density)
footprint MF03A_M (SOT23, 3-Leads, Body 2.9x1.3mm, Pitch 0.95mm, Lead Span 2.4mm, IPC Low Density)
pins: 1 +V, 2 -V, 3 NC

## LM4431M3X-2.5
designator U?
Micropower Shunt Voltage Reference, 3-pin SOT-23; PartNumber: LM4431M3X-2.5; Manufacturer: National Semiconductor; PackageTopMarking: S2E*XTT; PowerWise: N; CompType: Voltage Reference IC; DatasheetVersion: Jul-1998; PackageVersion: revB, Mar-2003; PackageReference: MF03A; PackageDescription: Molded SOT-23, .115 x .051 x .037in Body, 3 Lead, .075 in Pitch; RoHS: N; PinCount: 3; ComponentLink1Description: Manufacturer URL; ComponentLink1URL: http://www.national.com/; ComponentLink2Description: LM4431 Datasheet; ComponentLink2URL: http://www.national.com/ds/LM/LM4431.pdf; ComponentLink3Description: LM4431 Web Page; ComponentLink3URL: http://www.national.com/pf/LM/LM4431.html; ComponentLink4Description: MF03A Package Page; ComponentLink4URL: http://www.national.com/packaging/folders/mf03a.html
footprint MF03A_N (SOT23, 3-Leads, Body 2.9x1.3mm, Pitch 0.95mm, Lead Span 2.4mm, IPC Medium Density)
footprint MF03A_L (SOT23, 3-Leads, Body 2.9x1.3mm, Pitch 0.95mm, Lead Span 2.4mm, IPC High Density)
footprint MF03A_M (SOT23, 3-Leads, Body 2.9x1.3mm, Pitch 0.95mm, Lead Span 2.4mm, IPC Low Density)
pins: 1 +V, 2 -V, 3 NC

## SM74601MF-1.8/NOPB
designator U?
SOT-23 Precision Micropower Series Voltage Reference, 5-pin SOT-23; PartNumber: SM74601MF-1.8/NOPB; Manufacturer: National Semiconductor; PackageTopMarking: S602*XTT; PowerWise: N; CompType: Voltage Reference IC; High-Reliability: Y; DatasheetVersion: Sep-2001; PackageVersion: revD, Aug-2008; PackageReference: MF05A; PackageDescription: Molded SOT-23, .115 x .063 x .040 in Body, 5 Lead, .0375 in Pitch; RoHS: Y; PinCount: 5; ComponentLink1Description: Manufacturer URL; ComponentLink1URL: http://www.national.com/; ComponentLink2Description: SM74601 Datasheet; ComponentLink2URL: http://www.national.com/ds/SM/SM74601.pdf; ComponentLink3Description: SM74601 Web Page; ComponentLink3URL: http://www.national.com/pf/SM/SM74601.html; ComponentLink4Description: MF05A Package Page; ComponentLink4URL: http://www.national.com/packaging/folders/mf05a.html
footprint MF05A_N (SOT23, 5-Leads, Body 2.9x1.6mm, Pitch 0.95mm, Lead Span 2.8mm, IPC Medium Density)
footprint MF05A_L (SOT23, 5-Leads, Body 2.9x1.6mm, Pitch 0.95mm, Lead Span 2.8mm, IPC High Density)
footprint MF05A_M (SOT23, 5-Leads, Body 2.9x1.6mm, Pitch 0.95mm, Lead Span 2.8mm, IPC Low Density)
pins: 1 NC, 2 GND (power), 3 EN (in), 4 IN (power), 5 VREF (power)

## SM74601MF-2.0/NOPB
designator U?
SOT-23 Precision Micropower Series Voltage Reference, 5-pin SOT-23; PartNumber: SM74601MF-2.0/NOPB; Manufacturer: National Semiconductor; PackageTopMarking: S603*XTT; PowerWise: N; CompType: Voltage Reference IC; High-Reliability: Y; DatasheetVersion: Sep-2001; PackageVersion: revD, Aug-2008; PackageReference: MF05A; PackageDescription: Molded SOT-23, .115 x .063 x .040 in Body, 5 Lead, .0375 in Pitch; RoHS: Y; PinCount: 5; ComponentLink1Description: Manufacturer URL; ComponentLink1URL: http://www.national.com/; ComponentLink2Description: SM74601 Datasheet; ComponentLink2URL: http://www.national.com/ds/SM/SM74601.pdf; ComponentLink3Description: SM74601 Web Page; ComponentLink3URL: http://www.national.com/pf/SM/SM74601.html; ComponentLink4Description: MF05A Package Page; ComponentLink4URL: http://www.national.com/packaging/folders/mf05a.html
footprint MF05A_N (SOT23, 5-Leads, Body 2.9x1.6mm, Pitch 0.95mm, Lead Span 2.8mm, IPC Medium Density)
footprint MF05A_L (SOT23, 5-Leads, Body 2.9x1.6mm, Pitch 0.95mm, Lead Span 2.8mm, IPC High Density)
footprint MF05A_M (SOT23, 5-Leads, Body 2.9x1.6mm, Pitch 0.95mm, Lead Span 2.8mm, IPC Low Density)
pins: 1 NC, 2 GND (power), 3 EN (in), 4 IN (power), 5 VREF (power)

## SM74601MF-2.5/NOPB
designator U?
SOT-23 Precision Micropower Series Voltage Reference, 5-pin SOT-23; PartNumber: SM74601MF-2.5/NOPB; Manufacturer: National Semiconductor; PackageTopMarking: S601*XTT; PowerWise: N; CompType: Voltage Reference IC; High-Reliability: Y; DatasheetVersion: Sep-2001; PackageVersion: revD, Aug-2008; PackageReference: MF05A; PackageDescription: Molded SOT-23, .115 x .063 x .040 in Body, 5 Lead, .0375 in Pitch; RoHS: Y; PinCount: 5; ComponentLink1Description: Manufacturer URL; ComponentLink1URL: http://www.national.com/; ComponentLink2Description: SM74601 Datasheet; ComponentLink2URL: http://www.national.com/ds/SM/SM74601.pdf; ComponentLink3Description: SM74601 Web Page; ComponentLink3URL: http://www.national.com/pf/SM/SM74601.html; ComponentLink4Description: MF05A Package Page; ComponentLink4URL: http://www.national.com/packaging/folders/mf05a.html
footprint MF05A_N (SOT23, 5-Leads, Body 2.9x1.6mm, Pitch 0.95mm, Lead Span 2.8mm, IPC Medium Density)
footprint MF05A_L (SOT23, 5-Leads, Body 2.9x1.6mm, Pitch 0.95mm, Lead Span 2.8mm, IPC High Density)
footprint MF05A_M (SOT23, 5-Leads, Body 2.9x1.6mm, Pitch 0.95mm, Lead Span 2.8mm, IPC Low Density)
pins: 1 NC, 2 GND (power), 3 EN (in), 4 IN (power), 5 VREF (power)